# EAGLE library part NTHD4401P (library Discrete)
On-Semi Power MOSFET, -20V, -3.0A, Dual P-Channel
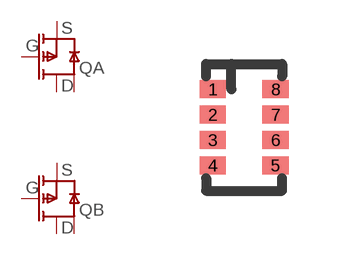
[diagram p8: symbol with the pads of CHIPFET; footprint CHIPFET]

Designator prefix Q; gates A=MOSFET-P2D B=MOSFET-P2D

## NTHD4401PT1  [CHIPFET]
1  A:S
2  A:G
3  B:S
4  B:G
5  B:D1
6  B:D2
7  A:D1
8  A:D2

## Footprint CHIPFET (pad centres in mm)
ON Semi ChipFET package
smd 0.66 x 0.45: 1 -0.785,0.952; 2 -0.785,0.317; 3 -0.785,-0.318; 4 -0.785,-0.953; 5 0.786,-0.953; 6 0.786,-0.318; 7 0.786,0.317; 8 0.786,0.952